# Altium schematic symbol library CRG1206F1M0.SchLib: 1 symbol
Pins are listed as number, name and electrical type; pins without a type are passive.

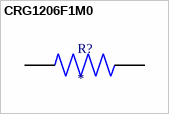
[diagram p0: symbol CRG1206F1M0]

## CRG1206F1M0
designator R?
CRG1206 1% 1M0; MP: CRG1206F1M0; MF: {'manufacturer': u'TE Connectivity'}; Price: None; Package: None; Availability: Unavailable; Value: *
footprint RESC3115X65N
pins: 1, 2